# Altium footprint library PH2.0.PcbLib: 22 footprints (part 2 of 2)
Each footprint in its own frame and in the unit in brackets; x right, y up, seen from the top. Pads: shape width x height; smd on the part's side, far side on the other; paste and mask are expansions set on the pad; w line width, h text height; cw(c..) or ccw(c..) is an arc to the next point about the centre after c.
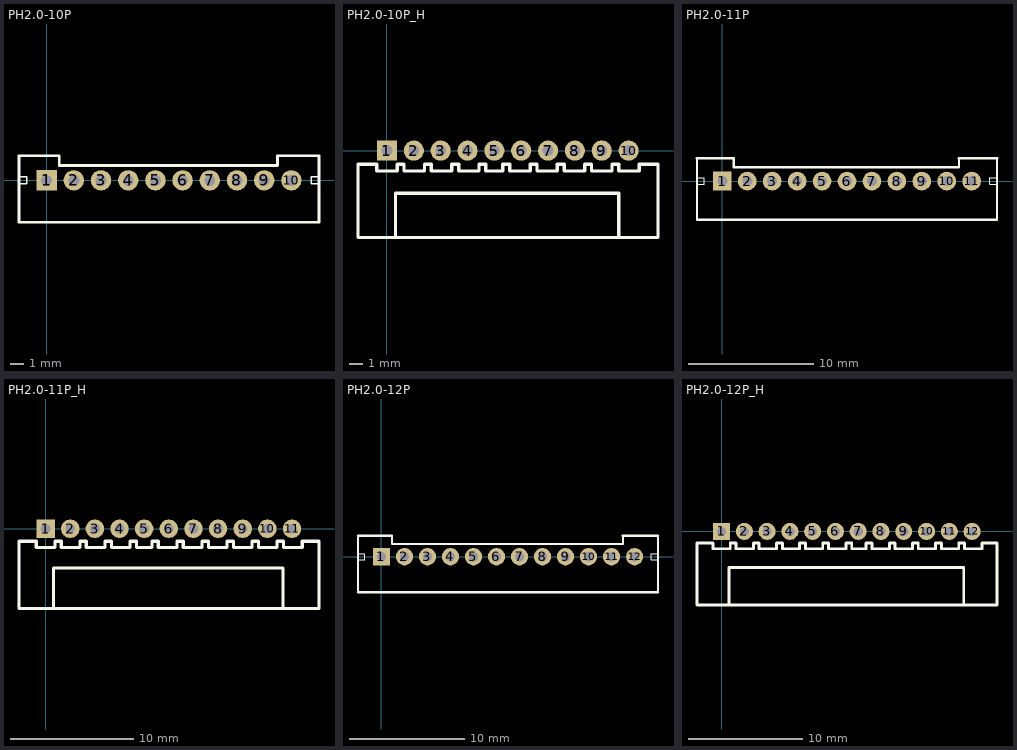
[diagram p1: the footprints below, top view; thin cyan lines are the x and y axes]

## PH2.0-10P [mm] "接插件/1A"
height 10
pads (10):
  rect 1.5x1.5 hole 0.8: 1(0,0)
  round 1.5 hole 0.8: 2(2,0) 3(4,0) 4(6,0) 5(8,0) 6(10,0) 7(12,0) 8(14,0) 9(16,0) 10(18,0)
Top Overlay:
  lines w0.1: -2.032,-0.246 -1.452,-0.246 -1.452,0.254 -2.032,0.254 ; 20.032,-0.246 19.452,-0.246 19.452,0.254 20.032,0.254
  lines w0.2: -2.032,1.816 -2.032,-3.084 20.032,-3.084 20.032,1.816 ; 0.92,1.816 0.92,1.1 16.984,1.1 16.984,1.816
  lines w0.203: -2.032,1.816 0.92,1.816 ; 16.984,1.816 20.032,1.816
3D body: height 6.02, standoff -2.98, extent -1.95,-3 19.95,1.7

## PH2.0-10P_H [mm] "接插件/1A"
height 10
pads (10):
  rect 1.5x1.5 hole 0.8: 1(0,0)
  round 1.5 hole 0.8: 2(2,0) 3(4,0) 4(6,0) 5(8,0) 6(10,0) 7(12,0) 8(14,0) 9(16,0) 10(18,0)
Top Overlay:
  lines w0.254: 3.27,-6.477 20.191,-6.477 20.191,-1.016 18.796,-1.016 18.796,-1.524 17.272,-1.524 17.272,-1.016 16.764,-1.016 16.764,-1.524 15.24,-1.524 15.24,-1.016 14.732,-1.016 14.732,-1.524 13.208,-1.524 13.208,-1.016 12.7,-1.016 12.7,-1.524 11.176,-1.524 11.176,-1.016 10.668,-1.016 10.668,-1.524 9.144,-1.524 9.144,-1.016 8.636,-1.016 8.636,-1.524 7.366,-1.524 7.366,-1.016 6.858,-1.016 6.858,-1.524 5.334,-1.524 5.334,-1.016 4.826,-1.016 4.826,-1.524 3.302,-1.524 3.302,-1.016 2.794,-1.016 2.794,-1.524 1.27,-1.524 1.27,-1.016 0.762,-1.016 0.762,-1.524 -0.762,-1.524 -0.762,-1.016 -2.159,-1.016 -2.159,-6.477 0.635,-6.477 ; 11.27,-6.477 0.635,-6.477 ; 17.27,-6.477 17.27,-3.175 0.635,-3.175 0.635,-6.477
3D body: height 4.72, standoff -2.68, extent -1.95,-6.3 19.95,0.3

## PH2.0-11P [mm] "接插件/1A"
height 10
pads (11):
  rect 1.5x1.5 hole 0.8: 1(0,0)
  round 1.5 hole 0.8: 2(2,0) 3(4,0) 4(6,0) 5(8,0) 6(10,0) 7(12,0) 8(14,0) 9(16,0) 10(18,0) 11(20,0)
Top Overlay:
  lines w0.1: -2.032,-0.246 -1.452,-0.246 -1.452,0.254 -2.032,0.254 ; 22.032,-0.246 21.452,-0.246 21.452,0.254 22.032,0.254
  lines w0.2: -2.032,1.816 -2.032,-3.084 22.032,-3.084 22.032,1.816 ; 0.92,1.816 0.92,1.1 18.984,1.1 18.984,1.816
  lines w0.203: -2.032,1.816 0.92,1.816 ; 18.984,1.816 22.032,1.816
3D body: height 6.02, standoff -2.98, extent -1.917,-2.946 21.983,1.753

## PH2.0-11P_H [mm] "接插件/1A"
height 10
pads (11):
  rect 1.5x1.5 hole 0.8: 1(0,0)
  round 1.5 hole 0.8: 2(2,0) 3(4,0) 4(6,0) 5(8,0) 6(10,0) 7(12,0) 8(14,0) 9(16,0) 10(18,0) 11(20,0)
Top Overlay:
  lines w0.254: 3.27,-6.477 22.191,-6.477 22.191,-1.016 20.828,-1.016 20.828,-1.524 19.304,-1.524 19.304,-1.016 18.796,-1.016 18.796,-1.524 17.272,-1.524 17.272,-1.016 16.764,-1.016 16.764,-1.524 15.24,-1.524 15.24,-1.016 14.732,-1.016 14.732,-1.524 13.208,-1.524 13.208,-1.016 12.7,-1.016 12.7,-1.524 11.176,-1.524 11.176,-1.016 10.668,-1.016 10.668,-1.524 9.144,-1.524 9.144,-1.016 8.636,-1.016 8.636,-1.524 7.366,-1.524 7.366,-1.016 6.858,-1.016 6.858,-1.524 5.334,-1.524 5.334,-1.016 4.826,-1.016 4.826,-1.524 3.302,-1.524 3.302,-1.016 2.794,-1.016 2.794,-1.524 1.27,-1.524 1.27,-1.016 0.762,-1.016 0.762,-1.524 -0.762,-1.524 -0.762,-1.016 -2.159,-1.016 -2.159,-6.477 0.635,-6.477 ; 11.27,-6.477 0.635,-6.477 ; 19.27,-6.477 19.27,-3.175 0.635,-3.175 0.635,-6.477
3D body: height 4.72, standoff -2.68, extent -1.95,-6.3 21.95,0.3

## PH2.0-12P [mm] "接插件/1A"
height 10
pads (12):
  rect 1.5x1.5 hole 0.8: 1(0,0)
  round 1.5 hole 0.8: 2(2,0) 3(4,0) 4(6,0) 5(8,0) 6(10,0) 7(12,0) 8(14,0) 9(16,0) 10(18,0) 11(20,0) 12(22,0)
Top Overlay:
  lines w0.1: -2.032,-0.246 -1.452,-0.246 -1.452,0.254 -2.032,0.254 ; 24.032,-0.246 23.452,-0.246 23.452,0.254 24.032,0.254
  lines w0.2: -2.032,1.816 -2.032,-3.084 24.032,-3.084 24.032,1.816 ; 0.92,1.816 0.92,1.1 20.984,1.1 20.984,1.816
  lines w0.203: -2.032,1.816 0.92,1.816 ; 20.984,1.816 24.032,1.816
3D body: height 6.02, standoff -2.98, extent -1.95,-3 23.95,1.7

## PH2.0-12P_H [mm] "接插件/1A"
height 10
pads (12):
  rect 1.5x1.5 hole 0.8: 1(0,0)
  round 1.5 hole 0.8: 2(2,0) 3(4,0) 4(6,0) 5(8,0) 6(10,0) 7(12,0) 8(14,0) 9(16,0) 10(18,0) 11(20,0) 12(22,0)
Top Overlay:
  lines w0.254: 3.27,-6.477 24.191,-6.477 24.191,-1.016 22.86,-1.016 22.86,-1.524 21.336,-1.524 21.336,-1.016 20.828,-1.016 20.828,-1.524 19.304,-1.524 19.304,-1.016 18.796,-1.016 18.796,-1.524 17.272,-1.524 17.272,-1.016 16.764,-1.016 16.764,-1.524 15.24,-1.524 15.24,-1.016 14.732,-1.016 14.732,-1.524 13.208,-1.524 13.208,-1.016 12.7,-1.016 12.7,-1.524 11.43,-1.524 11.43,-1.016 10.922,-1.016 10.922,-1.524 9.398,-1.524 9.398,-1.016 8.89,-1.016 8.89,-1.524 7.366,-1.524 7.366,-1.016 6.858,-1.016 6.858,-1.524 5.334,-1.524 5.334,-1.016 4.826,-1.016 4.826,-1.524 3.302,-1.524 3.302,-1.016 2.794,-1.016 2.794,-1.524 1.27,-1.524 1.27,-1.016 0.762,-1.016 0.762,-1.524 -0.762,-1.524 -0.762,-1.016 -2.159,-1.016 -2.159,-6.477 0.635,-6.477 ; 11.27,-6.477 0.635,-6.477 ; 21.27,-6.477 21.27,-3.175 0.635,-3.175 0.635,-6.477
3D body: height 4.72, standoff -2.68, extent -1.95,-6.3 23.95,0.3